# EAGLE library part FT232RL (library DSDEagleLibrary)
The FT232R is a USB to serial UART Interface
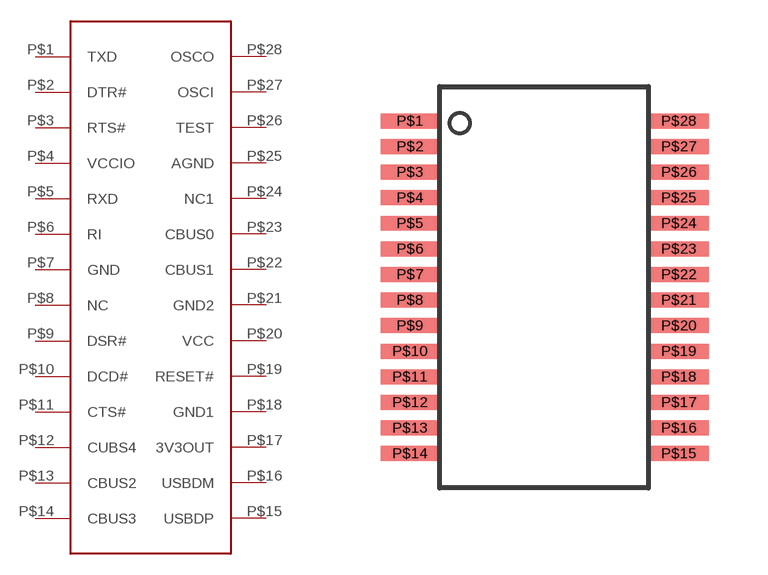
[diagram p61: symbol with the pads of SSOP-28-LD; footprint SSOP-28-LD]

Designator prefix U

## FT232RL  [SSOP-28-LD]
P$1  TXD
P$2  DTR#
P$3  RTS#
P$4  VCCIO
P$5  RXD
P$6  RI
P$7  GND
P$8  NC
P$9  DSR#
P$10  DCD#
P$11  CTS#
P$12  CUBS4
P$13  CBUS2
P$14  CBUS3
P$15  USBDP
P$16  USBDM
P$17  3V3OUT
P$18  GND1
P$19  RESET#
P$20  VCC
P$21  GND2
P$22  CBUS1
P$23  CBUS0
P$24  NC1
P$25  AGND
P$26  TEST
P$27  OSCI
P$28  OSCO

## Footprint SSOP-28-LD (pad centres in mm)
smd 1.5 x 0.38: P$1 -0.75,9.325; P$2 -0.75,8.675; P$3 -0.75,8.025; P$4 -0.75,7.375; P$5 -0.75,6.725; P$6 -0.75,6.075; P$7 -0.75,5.425; P$8 -0.75,4.775; P$9 -0.75,4.125; P$10 -0.75,3.475; P$11 -0.75,2.825; P$12 -0.75,2.175; P$13 -0.75,1.525; P$14 -0.75,0.875; P$15 6.075,0.875; P$16 6.075,1.525; P$17 6.075,2.175; P$18 6.075,2.825; P$19 6.075,3.475; P$20 6.075,4.124; P$21 6.075,4.775; P$22 6.075,5.425; P$23 6.075,6.075; P$24 6.075,6.725; P$25 6.075,7.375; P$26 6.075,8.025; P$27 6.075,8.675; P$28 6.075,9.325